# Altium footprint library BOURNS_SRN6045TA.PcbLib: 1 footprints
Each footprint in its own frame and in the unit in brackets; x right, y up, seen from the top. Pads: shape width x height; smd on the part's side, far side on the other; paste and mask are expansions set on the pad; w line width, h text height; cw(c..) or ccw(c..) is an arc to the next point about the centre after c.
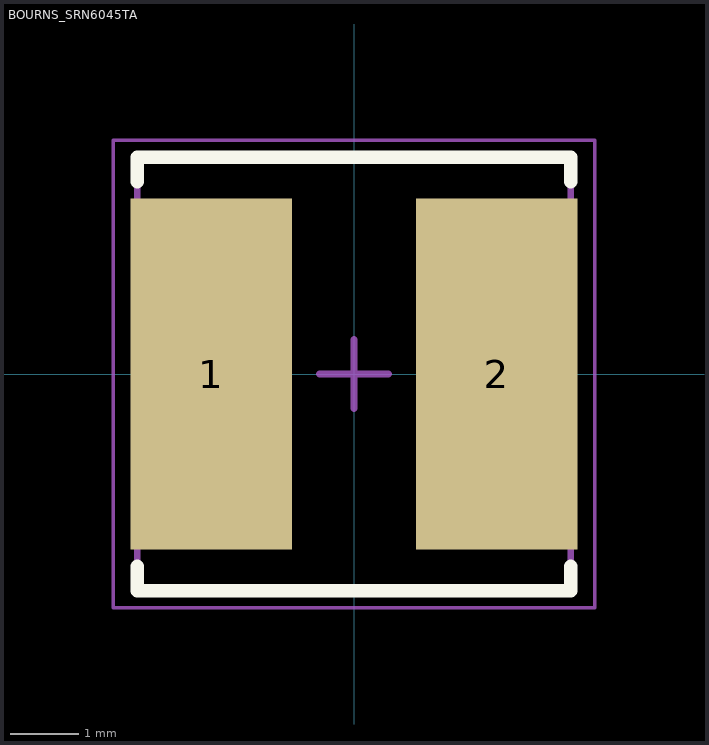
[diagram p0: the footprint, top view; thin cyan lines are the x and y axes]

## BOURNS_SRN6045TA [mm]
height 4.5
pads (2):
  rect 2.35x5.1 smd: 1(-2.075,0) 2(2.075,0)
Top Overlay:
  lines w0.2: -3.15,-2.8 -3.15,-3.15 3.15,-3.15 3.15,-2.8 ; -3.15,2.8 -3.15,3.15 3.15,3.15 3.15,2.8
Mechanical 13:
  lines w0.1: -3.15,-3.15 3.15,-3.15 3.15,3.15 -3.15,3.15 -3.15,-3.15
Mechanical 15:
  lines w0.05: -3.5,-3.4 3.5,-3.4 3.5,3.4 -3.5,3.4 -3.5,-3.4
  lines w0.1: -0.5,0 0.5,0 ; 0,-0.5 0,0.5
3D body "BOURNS_SRN6045TA.step": height 4.2, standoff 0, extent -3,-3 3,3